# Altium schematic symbol library ON Semi Triacs.SchLib: 233 symbols (part 3 of 5)
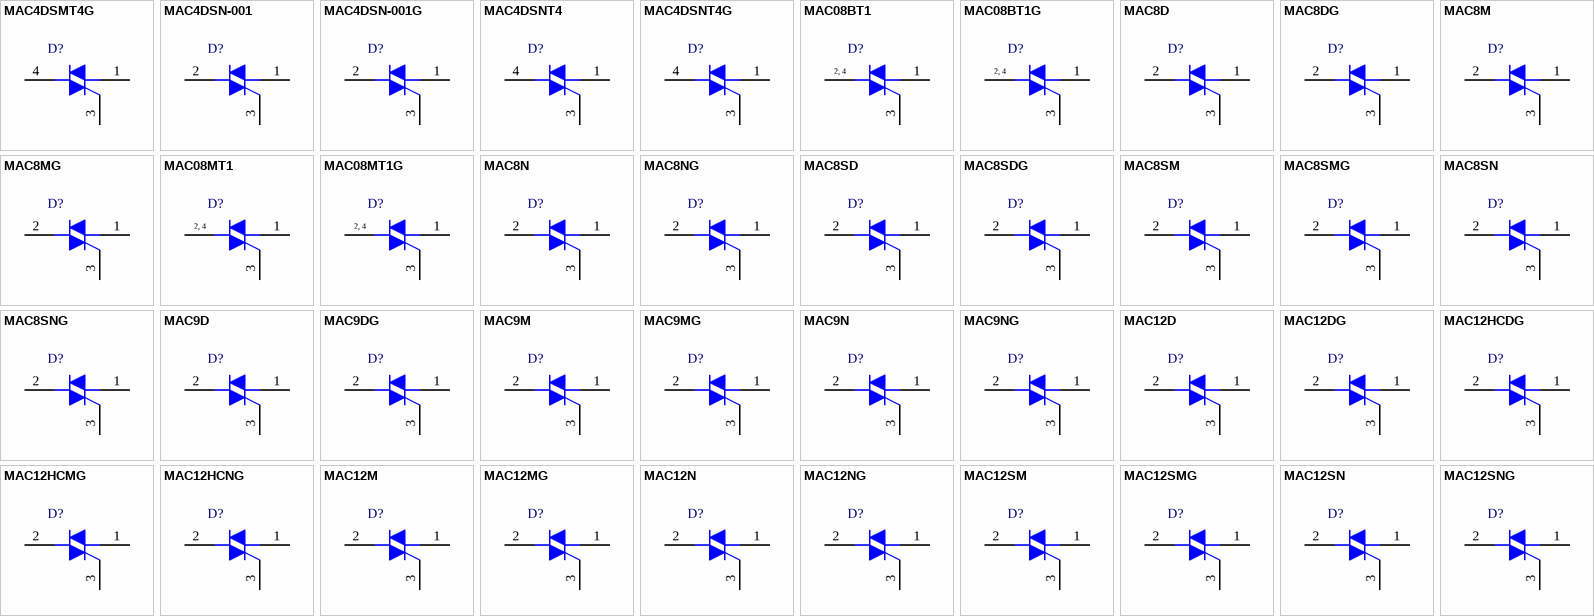
[diagram p7: symbols MAC4DSMT4G to MAC12SNG]

## MAC8SD
designator D?
Sensitive Gate Triacs, Silicon Bidirectional Thyristor, 3-Pin TO-220, Tube; Manufacturer: On Semiconductor; PartNumber: MAC8SD; IGT Max (mA): 5; IT(RMS) Max (A): 8; ITSM Max (A): 70; DatasheetVersion: Rev. 5; PackageVersion: Rev. AA; PackageReference: TO-220-3-221A-09_AA; PackageDescription: 3-Pin Flange Mount, Vertical Straight Lead, Body 9.97 x 4.445 mm, Pitch 2.54 mm; Packing: Tube; Mounting Technology: Through Hole; ComponentLink1Description: Manufacturer URL; ComponentLink1URL: http://www.onsemi.com/; ComponentLink2Description: Datasheet; ComponentLink2URL: http://www.onsemi.com/pub_link/Collateral/MAC8S-D.PDF; ComponentLink3Description: Package Specification; ComponentLink3URL: http://www.onsemi.com/pub_link/Collateral/MAC16C-D.PDF
footprint ONSC-TO-220-3-221A-09_AA (FM, 3-Leads, Body 10.3x4.85mm, Pitch 2.54mm)
pins: 1 MT1, 2 MT2, 3 G

## MAC8SDG
designator D?
Sensitive Gate Triacs, Silicon Bidirectional Thyristor, 3-Pin TO-220, Pb-Free, Tube; Manufacturer: On Semiconductor; PartNumber: MAC8SDG; IGT Max (mA): 5; IT(RMS) Max (A): 8; ITSM Max (A): 70; DatasheetVersion: Rev. 5; PackageVersion: Rev. AA; PackageReference: TO-220-3-221A-09_AA; PackageDescription: 3-Pin Flange Mount, Vertical Straight Lead, Body 9.97 x 4.445 mm, Pitch 2.54 mm; Supplier 1: Digi-Key; Supplier Part Number 1: MAC8SDG-ND; Supplier 2: Mouser; Supplier Part Number 2: 863-MAC8SDG; Packing: Tube; RoHS: Pb-Free; Mounting Technology: Through Hole; ComponentLink1Description: Manufacturer URL; ComponentLink1URL: http://www.onsemi.com/; ComponentLink2Description: Datasheet; ComponentLink2URL: http://www.onsemi.com/pub_link/Collateral/MAC8S-D.PDF; ComponentLink3Description: Package Specification; ComponentLink3URL: http://www.onsemi.com/pub_link/Collateral/MAC16C-D.PDF
footprint ONSC-TO-220-3-221A-09_AA (FM, 3-Leads, Body 10.3x4.85mm, Pitch 2.54mm)
pins: 1 MT1, 2 MT2, 3 G

## MAC8SM
designator D?
Sensitive Gate Triacs, Silicon Bidirectional Thyristor, 3-Pin TO-220, Tube; Manufacturer: On Semiconductor; PartNumber: MAC8SM; IGT Max (mA): 5; IT(RMS) Max (A): 8; ITSM Max (A): 70; DatasheetVersion: Rev. 5; PackageVersion: Rev. AA; PackageReference: TO-220-3-221A-09_AA; PackageDescription: 3-Pin Flange Mount, Vertical Straight Lead, Body 9.97 x 4.445 mm, Pitch 2.54 mm; Supplier 1: Digi-Key; Supplier Part Number 1: MAC8SMOS-ND; Packing: Tube; Mounting Technology: Through Hole; ComponentLink1Description: Manufacturer URL; ComponentLink1URL: http://www.onsemi.com/; ComponentLink2Description: Datasheet; ComponentLink2URL: http://www.onsemi.com/pub_link/Collateral/MAC8S-D.PDF; ComponentLink3Description: Package Specification; ComponentLink3URL: http://www.onsemi.com/pub_link/Collateral/MAC16C-D.PDF
footprint ONSC-TO-220-3-221A-09_AA (FM, 3-Leads, Body 10.3x4.85mm, Pitch 2.54mm)
pins: 1 MT1, 2 MT2, 3 G

## MAC8SMG
designator D?
Sensitive Gate Triacs, Silicon Bidirectional Thyristor, 3-Pin TO-220, Pb-Free, Tube; Manufacturer: On Semiconductor; PartNumber: MAC8SMG; IGT Max (mA): 5; IT(RMS) Max (A): 8; ITSM Max (A): 70; DatasheetVersion: Rev. 5; PackageVersion: Rev. AA; PackageReference: TO-220-3-221A-09_AA; PackageDescription: 3-Pin Flange Mount, Vertical Straight Lead, Body 9.97 x 4.445 mm, Pitch 2.54 mm; Supplier 1: Digi-Key; Supplier Part Number 1: MAC8SMGOS-ND; Supplier 2: Newark; Supplier Part Number 2: 26K3655; Supplier 3: Mouser; Supplier Part Number 3: 863-MAC8SMG; Packing: Tube; RoHS: Pb-Free; Mounting Technology: Through Hole; ComponentLink1Description: Manufacturer URL; ComponentLink1URL: http://www.onsemi.com/; ComponentLink2Description: Datasheet; ComponentLink2URL: http://www.onsemi.com/pub_link/Collateral/MAC8S-D.PDF; ComponentLink3Description: Package Specification; ComponentLink3URL: http://www.onsemi.com/pub_link/Collateral/MAC16C-D.PDF
footprint ONSC-TO-220-3-221A-09_AA (FM, 3-Leads, Body 10.3x4.85mm, Pitch 2.54mm)
pins: 1 MT1, 2 MT2, 3 G

## MAC8SN
designator D?
Sensitive Gate Triacs, Silicon Bidirectional Thyristor, 3-Pin TO-220, Tube; Manufacturer: On Semiconductor; PartNumber: MAC8SN; IGT Max (mA): 5; IT(RMS) Max (A): 8; ITSM Max (A): 70; DatasheetVersion: Rev. 5; PackageVersion: Rev. AA; PackageReference: TO-220-3-221A-09_AA; PackageDescription: 3-Pin Flange Mount, Vertical Straight Lead, Body 9.97 x 4.445 mm, Pitch 2.54 mm; Supplier 1: Digi-Key; Supplier Part Number 1: MAC8SN-ND; Packing: Tube; Mounting Technology: Through Hole; ComponentLink1Description: Manufacturer URL; ComponentLink1URL: http://www.onsemi.com/; ComponentLink2Description: Datasheet; ComponentLink2URL: http://www.onsemi.com/pub_link/Collateral/MAC8S-D.PDF; ComponentLink3Description: Package Specification; ComponentLink3URL: http://www.onsemi.com/pub_link/Collateral/MAC16C-D.PDF
footprint ONSC-TO-220-3-221A-09_AA (FM, 3-Leads, Body 10.3x4.85mm, Pitch 2.54mm)
pins: 1 MT1, 2 MT2, 3 G

## MAC8SNG
designator D?
Sensitive Gate Triacs, Silicon Bidirectional Thyristor, 3-Pin TO-220, Pb-Free, Tube; Manufacturer: On Semiconductor; PartNumber: MAC8SNG; IGT Max (mA): 5; IT(RMS) Max (A): 8; ITSM Max (A): 70; DatasheetVersion: Rev. 5; PackageVersion: Rev. AA; PackageReference: TO-220-3-221A-09_AA; PackageDescription: 3-Pin Flange Mount, Vertical Straight Lead, Body 9.97 x 4.445 mm, Pitch 2.54 mm; Supplier 1: Digi-Key; Supplier Part Number 1: MAC8SNGOS-ND; Supplier 2: Farnell; Supplier Part Number 2: 2317533; Supplier 3: Newark; Supplier Part Number 3: 90W4473; Supplier 4: Newark; Supplier Part Number 4: 71J5237; Supplier 5: Mouser; Supplier Part Number 5: 863-MAC8SNG; Packing: Tube; RoHS: Pb-Free; Mounting Technology: Through Hole; ComponentLink1Description: Manufacturer URL; ComponentLink1URL: http://www.onsemi.com/; ComponentLink2Description: Datasheet; ComponentLink2URL: http://www.onsemi.com/pub_link/Collateral/MAC8S-D.PDF; ComponentLink3Description: Package Specification; ComponentLink3URL: http://www.onsemi.com/pub_link/Collateral/MAC16C-D.PDF
footprint ONSC-TO-220-3-221A-09_AA (FM, 3-Leads, Body 10.3x4.85mm, Pitch 2.54mm)
pins: 1 MT1, 2 MT2, 3 G

## MAC9D
designator D?
Triacs, Silicon Bidirectional Thyristor, 3-Pin TO-220, Tube; Manufacturer: On Semiconductor; PartNumber: MAC9D; IGT Max (mA): 50; IT(RMS) Max (A): 8; ITSM Max (A): 80; DatasheetVersion: Rev. 3; PackageVersion: Rev. AA; PackageReference: TO-220-3-221A-09_AA; PackageDescription: 3-Pin Flange Mount, Vertical Straight Lead, Body 9.97 x 4.445 mm, Pitch 2.54 mm; Supplier 1: Digi-Key; Supplier Part Number 1: MAC9DOS-ND; Packing: Tube; Mounting Technology: Through Hole; ComponentLink1Description: Manufacturer URL; ComponentLink1URL: http://www.onsemi.com/; ComponentLink2Description: Datasheet; ComponentLink2URL: http://www.onsemi.com/pub_link/Collateral/MAC9-D.PDF; ComponentLink3Description: Package Specification; ComponentLink3URL: http://www.onsemi.com/pub_link/Collateral/MAC16C-D.PDF
footprint ONSC-TO-220-3-221A-09_AA (FM, 3-Leads, Body 10.3x4.85mm, Pitch 2.54mm)
pins: 1 MT1, 2 MT2, 3 G

## MAC9DG
designator D?
Triacs, Silicon Bidirectional Thyristor, 3-Pin TO-220, Pb-Free, Tube; Manufacturer: On Semiconductor; PartNumber: MAC9DG; IGT Max (mA): 50; IT(RMS) Max (A): 8; ITSM Max (A): 80; DatasheetVersion: Rev. 3; PackageVersion: Rev. AA; PackageReference: TO-220-3-221A-09_AA; PackageDescription: 3-Pin Flange Mount, Vertical Straight Lead, Body 9.97 x 4.445 mm, Pitch 2.54 mm; Supplier 1: Digi-Key; Supplier Part Number 1: MAC9DGOS-ND; Supplier 2: Farnell; Supplier Part Number 2: 1354335; Supplier 3: Newark; Supplier Part Number 3: 26K3656; Supplier 4: Mouser; Supplier Part Number 4: 863-MAC9DG; Packing: Tube; RoHS: Pb-Free; Mounting Technology: Through Hole; ComponentLink1Description: Manufacturer URL; ComponentLink1URL: http://www.onsemi.com/; ComponentLink2Description: Datasheet; ComponentLink2URL: http://www.onsemi.com/pub_link/Collateral/MAC9-D.PDF; ComponentLink3Description: Package Specification; ComponentLink3URL: http://www.onsemi.com/pub_link/Collateral/MAC16C-D.PDF
footprint ONSC-TO-220-3-221A-09_AA (FM, 3-Leads, Body 10.3x4.85mm, Pitch 2.54mm)
pins: 1 MT1, 2 MT2, 3 G

## MAC9M
designator D?
Triacs, Silicon Bidirectional Thyristor, 3-Pin TO-220, Tube; Manufacturer: On Semiconductor; PartNumber: MAC9M; IGT Max (mA): 50; IT(RMS) Max (A): 8; ITSM Max (A): 80; DatasheetVersion: Rev. 3; PackageVersion: Rev. AA; PackageReference: TO-220-3-221A-09_AA; PackageDescription: 3-Pin Flange Mount, Vertical Straight Lead, Body 9.97 x 4.445 mm, Pitch 2.54 mm; Packing: Tube; Mounting Technology: Through Hole; ComponentLink1Description: Manufacturer URL; ComponentLink1URL: http://www.onsemi.com/; ComponentLink2Description: Datasheet; ComponentLink2URL: http://www.onsemi.com/pub_link/Collateral/MAC9-D.PDF; ComponentLink3Description: Package Specification; ComponentLink3URL: http://www.onsemi.com/pub_link/Collateral/MAC16C-D.PDF
footprint ONSC-TO-220-3-221A-09_AA (FM, 3-Leads, Body 10.3x4.85mm, Pitch 2.54mm)
pins: 1 MT1, 2 MT2, 3 G

## MAC9MG
designator D?
Triacs, Silicon Bidirectional Thyristor, 3-Pin TO-220, Pb-Free, Tube; Manufacturer: On Semiconductor; PartNumber: MAC9MG; IGT Max (mA): 50; IT(RMS) Max (A): 8; ITSM Max (A): 80; DatasheetVersion: Rev. 3; PackageVersion: Rev. AA; PackageReference: TO-220-3-221A-09_AA; PackageDescription: 3-Pin Flange Mount, Vertical Straight Lead, Body 9.97 x 4.445 mm, Pitch 2.54 mm; Supplier 1: Digi-Key; Supplier Part Number 1: MAC9MG-ND; Supplier 2: Newark; Supplier Part Number 2: 26K3657; Supplier 3: Mouser; Supplier Part Number 3: 863-MAC9MG; Packing: Tube; RoHS: Pb-Free; Mounting Technology: Through Hole; ComponentLink1Description: Manufacturer URL; ComponentLink1URL: http://www.onsemi.com/; ComponentLink2Description: Datasheet; ComponentLink2URL: http://www.onsemi.com/pub_link/Collateral/MAC9-D.PDF; ComponentLink3Description: Package Specification; ComponentLink3URL: http://www.onsemi.com/pub_link/Collateral/MAC16C-D.PDF
footprint ONSC-TO-220-3-221A-09_AA (FM, 3-Leads, Body 10.3x4.85mm, Pitch 2.54mm)
pins: 1 MT1, 2 MT2, 3 G

## MAC9N
designator D?
Triacs, Silicon Bidirectional Thyristor, 3-Pin TO-220, Tube; Manufacturer: On Semiconductor; PartNumber: MAC9N; IGT Max (mA): 50; IT(RMS) Max (A): 8; ITSM Max (A): 80; DatasheetVersion: Rev. 3; PackageVersion: Rev. AA; PackageReference: TO-220-3-221A-09_AA; PackageDescription: 3-Pin Flange Mount, Vertical Straight Lead, Body 9.97 x 4.445 mm, Pitch 2.54 mm; Packing: Tube; Mounting Technology: Through Hole; ComponentLink1Description: Manufacturer URL; ComponentLink1URL: http://www.onsemi.com/; ComponentLink2Description: Datasheet; ComponentLink2URL: http://www.onsemi.com/pub_link/Collateral/MAC9-D.PDF; ComponentLink3Description: Package Specification; ComponentLink3URL: http://www.onsemi.com/pub_link/Collateral/MAC16C-D.PDF
footprint ONSC-TO-220-3-221A-09_AA (FM, 3-Leads, Body 10.3x4.85mm, Pitch 2.54mm)
pins: 1 MT1, 2 MT2, 3 G

## MAC9NG
designator D?
Triacs, Silicon Bidirectional Thyristor, 3-Pin TO-220, Pb-Free, Tube; Manufacturer: On Semiconductor; PartNumber: MAC9NG; IGT Max (mA): 50; IT(RMS) Max (A): 8; ITSM Max (A): 80; DatasheetVersion: Rev. 3; PackageVersion: Rev. AA; PackageReference: TO-220-3-221A-09_AA; PackageDescription: 3-Pin Flange Mount, Vertical Straight Lead, Body 9.97 x 4.445 mm, Pitch 2.54 mm; Supplier 1: Digi-Key; Supplier Part Number 1: MAC9NGOS-ND; Supplier 2: Newark; Supplier Part Number 2: 26K3658; Supplier 3: Mouser; Supplier Part Number 3: 863-MAC9NG; Packing: Tube; RoHS: Pb-Free; Mounting Technology: Through Hole; ComponentLink1Description: Manufacturer URL; ComponentLink1URL: http://www.onsemi.com/; ComponentLink2Description: Datasheet; ComponentLink2URL: http://www.onsemi.com/pub_link/Collateral/MAC9-D.PDF; ComponentLink3Description: Package Specification; ComponentLink3URL: http://www.onsemi.com/pub_link/Collateral/MAC16C-D.PDF
footprint ONSC-TO-220-3-221A-09_AA (FM, 3-Leads, Body 10.3x4.85mm, Pitch 2.54mm)
pins: 1 MT1, 2 MT2, 3 G

## MAC12D
designator D?
Triacs, Silicon Bidirectional Thyristor, 3-Pin TO-220, Tube; Manufacturer: On Semiconductor; PartNumber: MAC12D; IGT Max (mA): 35; IT(RMS) Max (A): 12; ITSM Max (A): 100; DatasheetVersion: Rev. 4; PackageVersion: Rev. AA; PackageReference: TO-220-3-221A-09_AA; PackageDescription: 3-Pin Flange Mount, Vertical Straight Lead, Body 9.97 x 4.445 mm, Pitch 2.54 mm; Packing: Tube; Mounting Technology: Through Hole; ComponentLink1Description: Manufacturer URL; ComponentLink1URL: http://www.onsemi.com/; ComponentLink2Description: Datasheet; ComponentLink2URL: http://www.onsemi.com/pub_link/Collateral/MAC12-D.PDF; ComponentLink3Description: Package Specification; ComponentLink3URL: http://www.onsemi.com/pub_link/Collateral/MAC16C-D.PDF
footprint ONSC-TO-220-3-221A-09_AA (FM, 3-Leads, Body 10.3x4.85mm, Pitch 2.54mm)
pins: 1 MT1, 2 MT2, 3 G

## MAC12DG
designator D?
Triacs, Silicon Bidirectional Thyristor, 3-Pin TO-220, Pb-Free, Tube; Manufacturer: On Semiconductor; PartNumber: MAC12DG; IGT Max (mA): 35; IT(RMS) Max (A): 12; ITSM Max (A): 100; DatasheetVersion: Rev. 4; PackageVersion: Rev. AA; PackageReference: TO-220-3-221A-09_AA; PackageDescription: 3-Pin Flange Mount, Vertical Straight Lead, Body 9.97 x 4.445 mm, Pitch 2.54 mm; Supplier 1: Digi-Key; Supplier Part Number 1: MAC12DGOS-ND; Supplier 2: Farnell; Supplier Part Number 2: 1705863; Supplier 3: Newark; Supplier Part Number 3: 41K9906; Supplier 4: Mouser; Supplier Part Number 4: 863-MAC12DG; Packing: Tube; RoHS: Pb-Free; Mounting Technology: Through Hole; ComponentLink1Description: Manufacturer URL; ComponentLink1URL: http://www.onsemi.com/; ComponentLink2Description: Datasheet; ComponentLink2URL: http://www.onsemi.com/pub_link/Collateral/MAC12-D.PDF; ComponentLink3Description: Package Specification; ComponentLink3URL: http://www.onsemi.com/pub_link/Collateral/MAC16C-D.PDF
footprint ONSC-TO-220-3-221A-09_AA (FM, 3-Leads, Body 10.3x4.85mm, Pitch 2.54mm)
pins: 1 MT1, 2 MT2, 3 G

## MAC12HCDG
designator D?
Triacs, Silicon Bidirectional Thyristor, 3-Pin TO-220, Pb-Free, Tube; Manufacturer: On Semiconductor; PartNumber: MAC12HCDG; IGT Max (mA): 50; IT(RMS) Max (A): 12; ITSM Max (A): 100; DatasheetVersion: Rev. 4; PackageVersion: Rev. AG, 09/2011; PackageReference: TO-220-3-221A-09; PackageDescription: 3-Pin Flange Mount, Vertical Straight Lead, Body 9.97 x 4.445 mm, Pitch 2.54 mm; Supplier 1: Digi-Key; Supplier Part Number 1: MAC12HCDG-ND; Supplier 2: Newark; Supplier Part Number 2: 45J0760; Supplier 3: Mouser; Supplier Part Number 3: 863-MAC12HCDG; Packing: Tube; RoHS: Pb-Free; Mounting Technology: Through Hole; ComponentLink1Description: Manufacturer URL; ComponentLink1URL: http://www.onsemi.com/; ComponentLink2Description: Datasheet; ComponentLink2URL: http://www.onsemi.com/pub_link/Collateral/MAC12HC-D.PDF; ComponentLink3Description: Package Specification; ComponentLink3URL: http://www.onsemi.com/pub_link/Collateral/221A-09.PDF
footprint ONSC-TO-220-3-221A-09 (FM, 3-Leads, Body 10.3x4.85mm, Pitch 2.54mm)
pins: 1 MT1, 2 MT2, 3 G

## MAC12HCMG
designator D?
Triacs, Silicon Bidirectional Thyristor, 3-Pin TO-220, Pb-Free, Tube; Manufacturer: On Semiconductor; PartNumber: MAC12HCMG; IGT Max (mA): 50; IT(RMS) Max (A): 12; ITSM Max (A): 100; DatasheetVersion: Rev. 4; PackageVersion: Rev. AG, 09/2011; PackageReference: TO-220-3-221A-09; PackageDescription: 3-Pin Flange Mount, Vertical Straight Lead, Body 9.97 x 4.445 mm, Pitch 2.54 mm; Supplier 1: Digi-Key; Supplier Part Number 1: MAC12HCMG-ND; Supplier 2: Newark; Supplier Part Number 2: 26K3648; Supplier 3: Mouser; Supplier Part Number 3: 863-MAC12HCMG; Packing: Tube; RoHS: Pb-Free; Mounting Technology: Through Hole; ComponentLink1Description: Manufacturer URL; ComponentLink1URL: http://www.onsemi.com/; ComponentLink2Description: Datasheet; ComponentLink2URL: http://www.onsemi.com/pub_link/Collateral/MAC12HC-D.PDF; ComponentLink3Description: Package Specification; ComponentLink3URL: http://www.onsemi.com/pub_link/Collateral/221A-09.PDF
footprint ONSC-TO-220-3-221A-09 (FM, 3-Leads, Body 10.3x4.85mm, Pitch 2.54mm)
pins: 1 MT1, 2 MT2, 3 G

## MAC12HCNG
designator D?
Triacs, Silicon Bidirectional Thyristor, 3-Pin TO-220, Pb-Free, Tube; Manufacturer: On Semiconductor; PartNumber: MAC12HCNG; IGT Max (mA): 50; IT(RMS) Max (A): 12; ITSM Max (A): 100; DatasheetVersion: Rev. 4; PackageVersion: Rev. AG, 09/2011; PackageReference: TO-220-3-221A-09; PackageDescription: 3-Pin Flange Mount, Vertical Straight Lead, Body 9.97 x 4.445 mm, Pitch 2.54 mm; Supplier 1: Digi-Key; Supplier Part Number 1: MAC12HCNG-ND; Supplier 2: Newark; Supplier Part Number 2: 41K9907; Supplier 3: Mouser; Supplier Part Number 3: 863-MAC12HCNG; Packing: Tube; RoHS: Pb-Free; Mounting Technology: Through Hole; ComponentLink1Description: Manufacturer URL; ComponentLink1URL: http://www.onsemi.com/; ComponentLink2Description: Datasheet; ComponentLink2URL: http://www.onsemi.com/pub_link/Collateral/MAC12HC-D.PDF; ComponentLink3Description: Package Specification; ComponentLink3URL: http://www.onsemi.com/pub_link/Collateral/221A-09.PDF
footprint ONSC-TO-220-3-221A-09 (FM, 3-Leads, Body 10.3x4.85mm, Pitch 2.54mm)
pins: 1 MT1, 2 MT2, 3 G

## MAC12M
designator D?
Triacs, Silicon Bidirectional Thyristor, 3-Pin TO-220, Tube; Manufacturer: On Semiconductor; PartNumber: MAC12M; IGT Max (mA): 35; IT(RMS) Max (A): 12; ITSM Max (A): 100; DatasheetVersion: Rev. 4; PackageVersion: Rev. AA; PackageReference: TO-220-3-221A-09_AA; PackageDescription: 3-Pin Flange Mount, Vertical Straight Lead, Body 9.97 x 4.445 mm, Pitch 2.54 mm; Packing: Tube; Mounting Technology: Through Hole; ComponentLink1Description: Manufacturer URL; ComponentLink1URL: http://www.onsemi.com/; ComponentLink2Description: Datasheet; ComponentLink2URL: http://www.onsemi.com/pub_link/Collateral/MAC12-D.PDF; ComponentLink3Description: Package Specification; ComponentLink3URL: http://www.onsemi.com/pub_link/Collateral/MAC16C-D.PDF
footprint ONSC-TO-220-3-221A-09_AA (FM, 3-Leads, Body 10.3x4.85mm, Pitch 2.54mm)
pins: 1 MT1, 2 MT2, 3 G

## MAC12MG
designator D?
Triacs, Silicon Bidirectional Thyristor, 3-Pin TO-220, Pb-Free, Tube; Manufacturer: On Semiconductor; PartNumber: MAC12MG; IGT Max (mA): 35; IT(RMS) Max (A): 12; ITSM Max (A): 100; DatasheetVersion: Rev. 4; PackageVersion: Rev. AA; PackageReference: TO-220-3-221A-09_AA; PackageDescription: 3-Pin Flange Mount, Vertical Straight Lead, Body 9.97 x 4.445 mm, Pitch 2.54 mm; Supplier 1: Digi-Key; Supplier Part Number 1: MAC12MGOS-ND; Supplier 2: Farnell; Supplier Part Number 2: 1126418; Supplier 3: Newark; Supplier Part Number 3: 45J0761; Supplier 4: Mouser; Supplier Part Number 4: 863-MAC12MG; Packing: Tube; RoHS: Pb-Free; Mounting Technology: Through Hole; ComponentLink1Description: Manufacturer URL; ComponentLink1URL: http://www.onsemi.com/; ComponentLink2Description: Datasheet; ComponentLink2URL: http://www.onsemi.com/pub_link/Collateral/MAC12-D.PDF; ComponentLink3Description: Package Specification; ComponentLink3URL: http://www.onsemi.com/pub_link/Collateral/MAC16C-D.PDF
footprint ONSC-TO-220-3-221A-09_AA (FM, 3-Leads, Body 10.3x4.85mm, Pitch 2.54mm)
pins: 1 MT1, 2 MT2, 3 G

## MAC12N
designator D?
Triacs, Silicon Bidirectional Thyristor, 3-Pin TO-220, Tube; Manufacturer: On Semiconductor; PartNumber: MAC12N; IGT Max (mA): 35; IT(RMS) Max (A): 12; ITSM Max (A): 100; DatasheetVersion: Rev. 4; PackageVersion: Rev. AA; PackageReference: TO-220-3-221A-09_AA; PackageDescription: 3-Pin Flange Mount, Vertical Straight Lead, Body 9.97 x 4.445 mm, Pitch 2.54 mm; Packing: Tube; Mounting Technology: Through Hole; ComponentLink1Description: Manufacturer URL; ComponentLink1URL: http://www.onsemi.com/; ComponentLink2Description: Datasheet; ComponentLink2URL: http://www.onsemi.com/pub_link/Collateral/MAC12-D.PDF; ComponentLink3Description: Package Specification; ComponentLink3URL: http://www.onsemi.com/pub_link/Collateral/MAC16C-D.PDF
footprint ONSC-TO-220-3-221A-09_AA (FM, 3-Leads, Body 10.3x4.85mm, Pitch 2.54mm)
pins: 1 MT1, 2 MT2, 3 G

## MAC12NG
designator D?
Triacs, Silicon Bidirectional Thyristor, 3-Pin TO-220, Pb-Free, Tube; Manufacturer: On Semiconductor; PartNumber: MAC12NG; IGT Max (mA): 35; IT(RMS) Max (A): 12; ITSM Max (A): 100; DatasheetVersion: Rev. 4; PackageVersion: Rev. AA; PackageReference: TO-220-3-221A-09_AA; PackageDescription: 3-Pin Flange Mount, Vertical Straight Lead, Body 9.97 x 4.445 mm, Pitch 2.54 mm; Supplier 1: Digi-Key; Supplier Part Number 1: MAC12NGOS-ND; Supplier 2: Newark; Supplier Part Number 2: 26K3649; Supplier 3: Mouser; Supplier Part Number 3: 863-MAC12NG; Packing: Tube; RoHS: Pb-Free; Mounting Technology: Through Hole; ComponentLink1Description: Manufacturer URL; ComponentLink1URL: http://www.onsemi.com/; ComponentLink2Description: Datasheet; ComponentLink2URL: http://www.onsemi.com/pub_link/Collateral/MAC12-D.PDF; ComponentLink3Description: Package Specification; ComponentLink3URL: http://www.onsemi.com/pub_link/Collateral/MAC16C-D.PDF
footprint ONSC-TO-220-3-221A-09_AA (FM, 3-Leads, Body 10.3x4.85mm, Pitch 2.54mm)
pins: 1 MT1, 2 MT2, 3 G

## MAC12SM
designator D?
Sensitive Gate Triacs, Silicon Bidirectional Thyristor, 3-Pin TO-220, Tube; Manufacturer: On Semiconductor; PartNumber: MAC12SM; IGT Max (mA): 5; IT(RMS) Max (A): 12; ITSM Max (A): 90; DatasheetVersion: Rev. 3; PackageVersion: Rev. AA; PackageReference: TO-220-3-221A-09_AA; PackageDescription: 3-Pin Flange Mount, Vertical Straight Lead, Body 9.97 x 4.445 mm, Pitch 2.54 mm; Supplier 1: Digi-Key; Supplier Part Number 1: MAC12SM-ND; Packing: Tube; Mounting Technology: Through Hole; ComponentLink1Description: Manufacturer URL; ComponentLink1URL: http://www.onsemi.com/; ComponentLink2Description: Datasheet; ComponentLink2URL: http://www.onsemi.com/pub_link/Collateral/MAC12SM-D.PDF; ComponentLink3Description: Package Specification; ComponentLink3URL: http://www.onsemi.com/pub_link/Collateral/MAC16C-D.PDF
footprint ONSC-TO-220-3-221A-09_AA (FM, 3-Leads, Body 10.3x4.85mm, Pitch 2.54mm)
pins: 1 MT1, 2 MT2, 3 G

## MAC12SMG
designator D?
Sensitive Gate Triacs, Silicon Bidirectional Thyristor, 3-Pin TO-220, Pb-Free, Tube; Manufacturer: On Semiconductor; PartNumber: MAC12SMG; IGT Max (mA): 5; IT(RMS) Max (A): 12; ITSM Max (A): 90; DatasheetVersion: Rev. 3; PackageVersion: Rev. AA; PackageReference: TO-220-3-221A-09_AA; PackageDescription: 3-Pin Flange Mount, Vertical Straight Lead, Body 9.97 x 4.445 mm, Pitch 2.54 mm; Supplier 1: Digi-Key; Supplier Part Number 1: MAC12SMG-ND; Supplier 2: Newark; Supplier Part Number 2: 41K9908; Supplier 3: Mouser; Supplier Part Number 3: 863-MAC12SMG; Packing: Tube; RoHS: Pb-Free; Mounting Technology: Through Hole; ComponentLink1Description: Manufacturer URL; ComponentLink1URL: http://www.onsemi.com/; ComponentLink2Description: Datasheet; ComponentLink2URL: http://www.onsemi.com/pub_link/Collateral/MAC12SM-D.PDF; ComponentLink3Description: Package Specification; ComponentLink3URL: http://www.onsemi.com/pub_link/Collateral/MAC16C-D.PDF
footprint ONSC-TO-220-3-221A-09_AA (FM, 3-Leads, Body 10.3x4.85mm, Pitch 2.54mm)
pins: 1 MT1, 2 MT2, 3 G

## MAC12SN
designator D?
Sensitive Gate Triacs, Silicon Bidirectional Thyristor, 3-Pin TO-220, Tube; Manufacturer: On Semiconductor; PartNumber: MAC12SN; IGT Max (mA): 5; IT(RMS) Max (A): 12; ITSM Max (A): 90; DatasheetVersion: Rev. 3; PackageVersion: Rev. AA; PackageReference: TO-220-3-221A-09_AA; PackageDescription: 3-Pin Flange Mount, Vertical Straight Lead, Body 9.97 x 4.445 mm, Pitch 2.54 mm; Supplier 1: Digi-Key; Supplier Part Number 1: MAC12SNOS-ND; Packing: Tube; Mounting Technology: Through Hole; ComponentLink1Description: Manufacturer URL; ComponentLink1URL: http://www.onsemi.com/; ComponentLink2Description: Datasheet; ComponentLink2URL: http://www.onsemi.com/pub_link/Collateral/MAC12SM-D.PDF; ComponentLink3Description: Package Specification; ComponentLink3URL: http://www.onsemi.com/pub_link/Collateral/MAC16C-D.PDF
footprint ONSC-TO-220-3-221A-09_AA (FM, 3-Leads, Body 10.3x4.85mm, Pitch 2.54mm)
pins: 1 MT1, 2 MT2, 3 G

## MAC12SNG
designator D?
Sensitive Gate Triacs, Silicon Bidirectional Thyristor, 3-Pin TO-220, Pb-Free, Tube; Manufacturer: On Semiconductor; PartNumber: MAC12SNG; IGT Max (mA): 5; IT(RMS) Max (A): 12; ITSM Max (A): 90; DatasheetVersion: Rev. 3; PackageVersion: Rev. AA; PackageReference: TO-220-3-221A-09_AA; PackageDescription: 3-Pin Flange Mount, Vertical Straight Lead, Body 9.97 x 4.445 mm, Pitch 2.54 mm; Supplier 1: Digi-Key; Supplier Part Number 1: MAC12SNGOS-ND; Supplier 2: Farnell; Supplier Part Number 2: 1705993; Supplier 3: Newark; Supplier Part Number 3: 71J5232; Supplier 4: Mouser; Supplier Part Number 4: 863-MAC12SNG; Packing: Tube; RoHS: Pb-Free; Mounting Technology: Through Hole; ComponentLink1Description: Manufacturer URL; ComponentLink1URL: http://www.onsemi.com/; ComponentLink2Description: Datasheet; ComponentLink2URL: http://www.onsemi.com/pub_link/Collateral/MAC12SM-D.PDF; ComponentLink3Description: Package Specification; ComponentLink3URL: http://www.onsemi.com/pub_link/Collateral/MAC16C-D.PDF
footprint ONSC-TO-220-3-221A-09_AA (FM, 3-Leads, Body 10.3x4.85mm, Pitch 2.54mm)
pins: 1 MT1, 2 MT2, 3 G

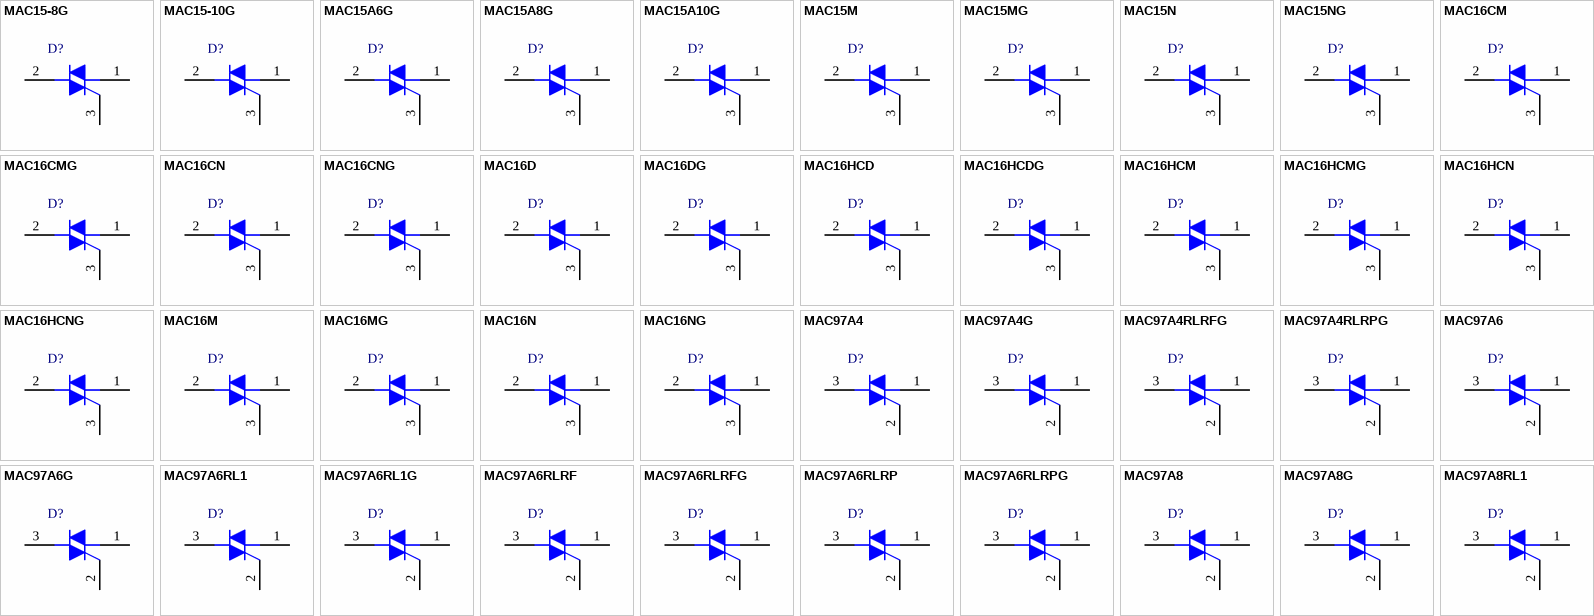
[diagram p3: symbols MAC15-8G to MAC97A8RL1]

## MAC15-8G
designator D?
Triacs, Silicon Bidirectional Thyristor, 3-Pin TO-220, Pb-Free, Bulk Box; Manufacturer: On Semiconductor; PartNumber: MAC15-8G; IT(RMS) Max (A): 15; ITSM Max (A): 150; DatasheetVersion: Rev. 5; PackageVersion: Rev. AG, 09/2011; PackageReference: TO-220-3-221A-09; PackageDescription: 3-Pin Flange Mount, Vertical Straight Lead, Body 9.97 x 4.445 mm, Pitch 2.54 mm; Supplier 1: Digi-Key; Supplier Part Number 1: MAC15-8G-ND; Supplier 2: Newark; Supplier Part Number 2: 41K9910; Supplier 3: Mouser; Supplier Part Number 3: 863-MAC15-8G; Packing: Bulk Box; RoHS: Pb-Free; Mounting Technology: Through Hole; ComponentLink1Description: Manufacturer URL; ComponentLink1URL: http://www.onsemi.com/; ComponentLink2Description: Datasheet; ComponentLink2URL: http://www.onsemi.com/pub_link/Collateral/MAC15A4-D.PDF; ComponentLink3Description: Package Specification; ComponentLink3URL: http://www.onsemi.com/pub_link/Collateral/221A-09.PDF
footprint ONSC-TO-220-3-221A-09 (FM, 3-Leads, Body 10.3x4.85mm, Pitch 2.54mm)
pins: 1 MT1, 2 MT2, 3 G

## MAC15-10G
designator D?
Triacs, Silicon Bidirectional Thyristor, 3-Pin TO-220, Pb-Free, Bulk Box; Manufacturer: On Semiconductor; PartNumber: MAC15-10G; IT(RMS) Max (A): 15; ITSM Max (A): 150; DatasheetVersion: Rev. 5; PackageVersion: Rev. AG, 09/2011; PackageReference: TO-220-3-221A-09; PackageDescription: 3-Pin Flange Mount, Vertical Straight Lead, Body 9.97 x 4.445 mm, Pitch 2.54 mm; Supplier 1: Digi-Key; Supplier Part Number 1: MAC15-10G-ND; Supplier 2: Newark; Supplier Part Number 2: 41K9909; Supplier 3: Mouser; Supplier Part Number 3: 863-MAC15-10G; Packing: Bulk Box; RoHS: Pb-Free; Mounting Technology: Through Hole; ComponentLink1Description: Manufacturer URL; ComponentLink1URL: http://www.onsemi.com/; ComponentLink2Description: Datasheet; ComponentLink2URL: http://www.onsemi.com/pub_link/Collateral/MAC15A4-D.PDF; ComponentLink3Description: Package Specification; ComponentLink3URL: http://www.onsemi.com/pub_link/Collateral/221A-09.PDF
footprint ONSC-TO-220-3-221A-09 (FM, 3-Leads, Body 10.3x4.85mm, Pitch 2.54mm)
pins: 1 MT1, 2 MT2, 3 G

## MAC15A6G
designator D?
Triacs, Silicon Bidirectional Thyristor, 3-Pin TO-220, Pb-Free, Bulk Box; Manufacturer: On Semiconductor; PartNumber: MAC15A6G; IT(RMS) Max (A): 15; ITSM Max (A): 150; DatasheetVersion: Rev. 5; PackageVersion: Rev. AG, 09/2011; PackageReference: TO-220-3-221A-09; PackageDescription: 3-Pin Flange Mount, Vertical Straight Lead, Body 9.97 x 4.445 mm, Pitch 2.54 mm; Supplier 1: Digi-Key; Supplier Part Number 1: MAC15A6GOS-ND; Supplier 2: Farnell; Supplier Part Number 2: 1126221; Supplier 3: Newark; Supplier Part Number 3: 41K9911; Supplier 4: Mouser; Supplier Part Number 4: 863-MAC15A6G; Packing: Bulk Box; RoHS: Pb-Free; Mounting Technology: Through Hole; ComponentLink1Description: Manufacturer URL; ComponentLink1URL: http://www.onsemi.com/; ComponentLink2Description: Datasheet; ComponentLink2URL: http://www.onsemi.com/pub_link/Collateral/MAC15A4-D.PDF; ComponentLink3Description: Package Specification; ComponentLink3URL: http://www.onsemi.com/pub_link/Collateral/221A-09.PDF
footprint ONSC-TO-220-3-221A-09 (FM, 3-Leads, Body 10.3x4.85mm, Pitch 2.54mm)
pins: 1 MT1, 2 MT2, 3 G

## MAC15A8G
designator D?
Triacs, Silicon Bidirectional Thyristor, 3-Pin TO-220, Pb-Free, Bulk Box; Manufacturer: On Semiconductor; PartNumber: MAC15A8G; IT(RMS) Max (A): 15; ITSM Max (A): 150; DatasheetVersion: Rev. 5; PackageVersion: Rev. AG, 09/2011; PackageReference: TO-220-3-221A-09; PackageDescription: 3-Pin Flange Mount, Vertical Straight Lead, Body 9.97 x 4.445 mm, Pitch 2.54 mm; Supplier 1: Digi-Key; Supplier Part Number 1: MAC15A8GOS-ND; Supplier 2: Farnell; Supplier Part Number 2: 9557300; Supplier 3: Newark; Supplier Part Number 3: 41K9912; Supplier 4: Mouser; Supplier Part Number 4: 863-MAC15A8G; Packing: Bulk Box; RoHS: Pb-Free; Mounting Technology: Through Hole; ComponentLink1Description: Manufacturer URL; ComponentLink1URL: http://www.onsemi.com/; ComponentLink2Description: Datasheet; ComponentLink2URL: http://www.onsemi.com/pub_link/Collateral/MAC15A4-D.PDF; ComponentLink3Description: Package Specification; ComponentLink3URL: http://www.onsemi.com/pub_link/Collateral/221A-09.PDF
footprint ONSC-TO-220-3-221A-09 (FM, 3-Leads, Body 10.3x4.85mm, Pitch 2.54mm)
pins: 1 MT1, 2 MT2, 3 G

## MAC15A10G
designator D?
Triacs, Silicon Bidirectional Thyristor, 3-Pin TO-220, Pb-Free, Bulk Box; Manufacturer: On Semiconductor; PartNumber: MAC15A10G; IT(RMS) Max (A): 15; ITSM Max (A): 150; DatasheetVersion: Rev. 5; PackageVersion: Rev. AG, 09/2011; PackageReference: TO-220-3-221A-09; PackageDescription: 3-Pin Flange Mount, Vertical Straight Lead, Body 9.97 x 4.445 mm, Pitch 2.54 mm; Supplier 1: Digi-Key; Supplier Part Number 1: MAC15A10GOS-ND; Supplier 2: Farnell; Supplier Part Number 2: 1130607; Supplier 3: Newark; Supplier Part Number 3: 71J5233; Supplier 4: Mouser; Supplier Part Number 4: 863-MAC15A10G; Packing: Bulk Box; RoHS: Pb-Free; Mounting Technology: Through Hole; ComponentLink1Description: Manufacturer URL; ComponentLink1URL: http://www.onsemi.com/; ComponentLink2Description: Datasheet; ComponentLink2URL: http://www.onsemi.com/pub_link/Collateral/MAC15A4-D.PDF; ComponentLink3Description: Package Specification; ComponentLink3URL: http://www.onsemi.com/pub_link/Collateral/221A-09.PDF
footprint ONSC-TO-220-3-221A-09 (FM, 3-Leads, Body 10.3x4.85mm, Pitch 2.54mm)
pins: 1 MT1, 2 MT2, 3 G

## MAC15M
designator D?
Triacs, Silicon Bidirectional Thyristor, 3-Pin TO-220, Tube; Manufacturer: On Semiconductor; PartNumber: MAC15M; IGT Max (mA): 35; IT(RMS) Max (A): 15; ITSM Max (A): 150; DatasheetVersion: Rev. 2; PackageVersion: Rev. AA; PackageReference: TO-220-3-221A-09_AA; PackageDescription: 3-Pin Flange Mount, Vertical Straight Lead, Body 9.97 x 4.445 mm, Pitch 2.54 mm; Packing: Tube; Mounting Technology: Through Hole; ComponentLink1Description: Manufacturer URL; ComponentLink1URL: http://www.onsemi.com/; ComponentLink2Description: Datasheet; ComponentLink2URL: http://www.onsemi.com/pub_link/Collateral/MAC15M-D.PDF; ComponentLink3Description: Package Specification; ComponentLink3URL: http://www.onsemi.com/pub_link/Collateral/MAC16C-D.PDF
footprint ONSC-TO-220-3-221A-09_AA (FM, 3-Leads, Body 10.3x4.85mm, Pitch 2.54mm)
pins: 1 MT1, 2 MT2, 3 G

## MAC15MG
designator D?
Triacs, Silicon Bidirectional Thyristor, 3-Pin TO-220, Pb-Free, Tube; Manufacturer: On Semiconductor; PartNumber: MAC15MG; IGT Max (mA): 35; IT(RMS) Max (A): 15; ITSM Max (A): 150; DatasheetVersion: Rev. 2; PackageVersion: Rev. AA; PackageReference: TO-220-3-221A-09_AA; PackageDescription: 3-Pin Flange Mount, Vertical Straight Lead, Body 9.97 x 4.445 mm, Pitch 2.54 mm; Supplier 1: Digi-Key; Supplier Part Number 1: MAC15MGOS-ND; Supplier 2: Farnell; Supplier Part Number 2: 1345338; Supplier 3: Newark; Supplier Part Number 3: 41K9913; Supplier 4: Mouser; Supplier Part Number 4: 863-MAC15MG; Packing: Tube; RoHS: Pb-Free; Mounting Technology: Through Hole; ComponentLink1Description: Manufacturer URL; ComponentLink1URL: http://www.onsemi.com/; ComponentLink2Description: Datasheet; ComponentLink2URL: http://www.onsemi.com/pub_link/Collateral/MAC15M-D.PDF; ComponentLink3Description: Package Specification; ComponentLink3URL: http://www.onsemi.com/pub_link/Collateral/MAC16C-D.PDF
footprint ONSC-TO-220-3-221A-09_AA (FM, 3-Leads, Body 10.3x4.85mm, Pitch 2.54mm)
pins: 1 MT1, 2 MT2, 3 G

## MAC15N
designator D?
Triacs, Silicon Bidirectional Thyristor, 3-Pin TO-220, Tube; Manufacturer: On Semiconductor; PartNumber: MAC15N; IGT Max (mA): 35; IT(RMS) Max (A): 15; ITSM Max (A): 150; DatasheetVersion: Rev. 2; PackageVersion: Rev. AA; PackageReference: TO-220-3-221A-09_AA; PackageDescription: 3-Pin Flange Mount, Vertical Straight Lead, Body 9.97 x 4.445 mm, Pitch 2.54 mm; Supplier 1: Digi-Key; Supplier Part Number 1: MAC15N-ND; Packing: Tube; Mounting Technology: Through Hole; ComponentLink1Description: Manufacturer URL; ComponentLink1URL: http://www.onsemi.com/; ComponentLink2Description: Datasheet; ComponentLink2URL: http://www.onsemi.com/pub_link/Collateral/MAC15M-D.PDF; ComponentLink3Description: Package Specification; ComponentLink3URL: http://www.onsemi.com/pub_link/Collateral/MAC16C-D.PDF
footprint ONSC-TO-220-3-221A-09_AA (FM, 3-Leads, Body 10.3x4.85mm, Pitch 2.54mm)
pins: 1 MT1, 2 MT2, 3 G

## MAC15NG
designator D?
Triacs, Silicon Bidirectional Thyristor, 3-Pin TO-220, Pb-Free, Tube; Manufacturer: On Semiconductor; PartNumber: MAC15NG; IGT Max (mA): 35; IT(RMS) Max (A): 15; ITSM Max (A): 150; DatasheetVersion: Rev. 2; PackageVersion: Rev. AA; PackageReference: TO-220-3-221A-09_AA; PackageDescription: 3-Pin Flange Mount, Vertical Straight Lead, Body 9.97 x 4.445 mm, Pitch 2.54 mm; Supplier 1: Digi-Key; Supplier Part Number 1: MAC15NG-ND; Supplier 2: Newark; Supplier Part Number 2: 41K9914; Supplier 3: Mouser; Supplier Part Number 3: 863-MAC15NG; Packing: Tube; RoHS: Pb-Free; Mounting Technology: Through Hole; ComponentLink1Description: Manufacturer URL; ComponentLink1URL: http://www.onsemi.com/; ComponentLink2Description: Datasheet; ComponentLink2URL: http://www.onsemi.com/pub_link/Collateral/MAC15M-D.PDF; ComponentLink3Description: Package Specification; ComponentLink3URL: http://www.onsemi.com/pub_link/Collateral/MAC16C-D.PDF
footprint ONSC-TO-220-3-221A-09_AA (FM, 3-Leads, Body 10.3x4.85mm, Pitch 2.54mm)
pins: 1 MT1, 2 MT2, 3 G

## MAC16CM
designator D?
Triacs, Silicon Bidirectional Thyristor, 3-Pin TO-220, Tube; Manufacturer: On Semiconductor; PartNumber: MAC16CM; IGT Max (mA): 35; IT(RMS) Max (A): 16; ITSM Max (A): 150; DatasheetVersion: Rev. 3; PackageVersion: Rev. AA; PackageReference: TO-220-3-221A-09_AA; PackageDescription: 3-Pin Flange Mount, Vertical Straight Lead, Body 9.97 x 4.445 mm, Pitch 2.54 mm; Supplier 1: Digi-Key; Supplier Part Number 1: MAC16CM-ND; Packing: Tube; Mounting Technology: Through Hole; ComponentLink1Description: Manufacturer URL; ComponentLink1URL: http://www.onsemi.com/; ComponentLink2Description: Datasheet; ComponentLink2URL: http://www.onsemi.com/pub_link/Collateral/MAC16C-D.PDF; ComponentLink3Description: Package Specification; ComponentLink3URL: http://www.onsemi.com/pub_link/Collateral/MAC16C-D.PDF
footprint ONSC-TO-220-3-221A-09_AA (FM, 3-Leads, Body 10.3x4.85mm, Pitch 2.54mm)
pins: 1 MT1, 2 MT2, 3 G

## MAC16CMG
designator D?
Triacs, Silicon Bidirectional Thyristor, 3-Pin TO-220, Pb-Free, Tube; Manufacturer: On Semiconductor; PartNumber: MAC16CMG; IGT Max (mA): 35; IT(RMS) Max (A): 16; ITSM Max (A): 150; DatasheetVersion: Rev. 3; PackageVersion: Rev. AA; PackageReference: TO-220-3-221A-09_AA; PackageDescription: 3-Pin Flange Mount, Vertical Straight Lead, Body 9.97 x 4.445 mm, Pitch 2.54 mm; Supplier 1: Digi-Key; Supplier Part Number 1: MAC16CMG-ND; Supplier 2: Mouser; Supplier Part Number 2: 863-MAC16CMG; Packing: Tube; RoHS: Pb-Free; Mounting Technology: Through Hole; ComponentLink1Description: Manufacturer URL; ComponentLink1URL: http://www.onsemi.com/; ComponentLink2Description: Datasheet; ComponentLink2URL: http://www.onsemi.com/pub_link/Collateral/MAC16C-D.PDF; ComponentLink3Description: Package Specification; ComponentLink3URL: http://www.onsemi.com/pub_link/Collateral/MAC16C-D.PDF
footprint ONSC-TO-220-3-221A-09_AA (FM, 3-Leads, Body 10.3x4.85mm, Pitch 2.54mm)
pins: 1 MT1, 2 MT2, 3 G

## MAC16CN
designator D?
Triacs, Silicon Bidirectional Thyristor, 3-Pin TO-220, Tube; Manufacturer: On Semiconductor; PartNumber: MAC16CN; IGT Max (mA): 35; IT(RMS) Max (A): 16; ITSM Max (A): 150; DatasheetVersion: Rev. 3; PackageVersion: Rev. AA; PackageReference: TO-220-3-221A-09_AA; PackageDescription: 3-Pin Flange Mount, Vertical Straight Lead, Body 9.97 x 4.445 mm, Pitch 2.54 mm; Supplier 1: Digi-Key; Supplier Part Number 1: MAC16CNOS-ND; Packing: Tube; Mounting Technology: Through Hole; ComponentLink1Description: Manufacturer URL; ComponentLink1URL: http://www.onsemi.com/; ComponentLink2Description: Datasheet; ComponentLink2URL: http://www.onsemi.com/pub_link/Collateral/MAC16C-D.PDF; ComponentLink3Description: Package Specification; ComponentLink3URL: http://www.onsemi.com/pub_link/Collateral/MAC16C-D.PDF
footprint ONSC-TO-220-3-221A-09_AA (FM, 3-Leads, Body 10.3x4.85mm, Pitch 2.54mm)
pins: 1 MT1, 2 MT2, 3 G

## MAC16CNG
designator D?
Triacs, Silicon Bidirectional Thyristor, 3-Pin TO-220, Pb-Free, Tube; Manufacturer: On Semiconductor; PartNumber: MAC16CNG; IGT Max (mA): 35; IT(RMS) Max (A): 16; ITSM Max (A): 150; DatasheetVersion: Rev. 3; PackageVersion: Rev. AA; PackageReference: TO-220-3-221A-09_AA; PackageDescription: 3-Pin Flange Mount, Vertical Straight Lead, Body 9.97 x 4.445 mm, Pitch 2.54 mm; Supplier 1: Digi-Key; Supplier Part Number 1: MAC16CNGOS-ND; Supplier 2: Newark; Supplier Part Number 2: 26K3650; Supplier 3: Mouser; Supplier Part Number 3: 863-MAC16CNG; Packing: Tube; RoHS: Pb-Free; Mounting Technology: Through Hole; ComponentLink1Description: Manufacturer URL; ComponentLink1URL: http://www.onsemi.com/; ComponentLink2Description: Datasheet; ComponentLink2URL: http://www.onsemi.com/pub_link/Collateral/MAC16C-D.PDF; ComponentLink3Description: Package Specification; ComponentLink3URL: http://www.onsemi.com/pub_link/Collateral/MAC16C-D.PDF
footprint ONSC-TO-220-3-221A-09_AA (FM, 3-Leads, Body 10.3x4.85mm, Pitch 2.54mm)
pins: 1 MT1, 2 MT2, 3 G

## MAC16D
designator D?
Triacs, Silicon Bidirectional Thyristor, 3-Pin TO-220, Tube; Manufacturer: On Semiconductor; PartNumber: MAC16D; IGT Max (mA): 50; IT(RMS) Max (A): 16; ITSM Max (A): 150; DatasheetVersion: Rev. 3; PackageVersion: Rev. AA; PackageReference: TO-220-3-221A-09_AA; PackageDescription: 3-Pin Flange Mount, Vertical Straight Lead, Body 9.97 x 4.445 mm, Pitch 2.54 mm; Supplier 1: Digi-Key; Supplier Part Number 1: MAC16DOS-ND; Packing: Tube; Mounting Technology: Through Hole; ComponentLink1Description: Manufacturer URL; ComponentLink1URL: http://www.onsemi.com/; ComponentLink2Description: Datasheet; ComponentLink2URL: http://www.onsemi.com/pub_link/Collateral/MAC16D-D.PDF; ComponentLink3Description: Package Specification; ComponentLink3URL: http://www.onsemi.com/pub_link/Collateral/MAC16C-D.PDF
footprint ONSC-TO-220-3-221A-09_AA (FM, 3-Leads, Body 10.3x4.85mm, Pitch 2.54mm)
pins: 1 MT1, 2 MT2, 3 G

## MAC16DG
designator D?
Triacs, Silicon Bidirectional Thyristor, 3-Pin TO-220, Pb-Free, Tube; Manufacturer: On Semiconductor; PartNumber: MAC16DG; IGT Max (mA): 50; IT(RMS) Max (A): 16; ITSM Max (A): 150; DatasheetVersion: Rev. 3; PackageVersion: Rev. AA; PackageReference: TO-220-3-221A-09_AA; PackageDescription: 3-Pin Flange Mount, Vertical Straight Lead, Body 9.97 x 4.445 mm, Pitch 2.54 mm; Supplier 1: Digi-Key; Supplier Part Number 1: MAC16DGOS-ND; Supplier 2: Newark; Supplier Part Number 2: 41K9919; Supplier 3: Mouser; Supplier Part Number 3: 863-MAC16DG; Packing: Tube; RoHS: Pb-Free; Mounting Technology: Through Hole; ComponentLink1Description: Manufacturer URL; ComponentLink1URL: http://www.onsemi.com/; ComponentLink2Description: Datasheet; ComponentLink2URL: http://www.onsemi.com/pub_link/Collateral/MAC16D-D.PDF; ComponentLink3Description: Package Specification; ComponentLink3URL: http://www.onsemi.com/pub_link/Collateral/MAC16C-D.PDF
footprint ONSC-TO-220-3-221A-09_AA (FM, 3-Leads, Body 10.3x4.85mm, Pitch 2.54mm)
pins: 1 MT1, 2 MT2, 3 G

## MAC16HCD
designator D?
Triacs, Silicon Bidirectional Thyristor, 3-Pin TO-220, Tube; Manufacturer: On Semiconductor; PartNumber: MAC16HCD; IGT Max (mA): 50; IT(RMS) Max (A): 16; ITSM Max (A): 150; DatasheetVersion: Rev. 1; PackageVersion: Rev. AA; PackageReference: TO-220-3-221A-09_AA; PackageDescription: 3-Pin Flange Mount, Vertical Straight Lead, Body 9.97 x 4.445 mm, Pitch 2.54 mm; Packing: Tube; Mounting Technology: Through Hole; ComponentLink1Description: Manufacturer URL; ComponentLink1URL: http://www.onsemi.com/; ComponentLink2Description: Datasheet; ComponentLink2URL: http://www.onsemi.com/pub_link/Collateral/MAC16HC-D.PDF; ComponentLink3Description: Package Specification; ComponentLink3URL: http://www.onsemi.com/pub_link/Collateral/MAC16C-D.PDF
footprint ONSC-TO-220-3-221A-09_AA (FM, 3-Leads, Body 10.3x4.85mm, Pitch 2.54mm)
pins: 1 MT1, 2 MT2, 3 G

## MAC16HCDG
designator D?
Triacs, Silicon Bidirectional Thyristor, 3-Pin TO-220, Pb-Free, Tube; Manufacturer: On Semiconductor; PartNumber: MAC16HCDG; IGT Max (mA): 50; IT(RMS) Max (A): 16; ITSM Max (A): 150; DatasheetVersion: Rev. 1; PackageVersion: Rev. AA; PackageReference: TO-220-3-221A-09_AA; PackageDescription: 3-Pin Flange Mount, Vertical Straight Lead, Body 9.97 x 4.445 mm, Pitch 2.54 mm; Supplier 1: Digi-Key; Supplier Part Number 1: MAC16HCDG-ND; Supplier 2: Mouser; Supplier Part Number 2: 863-MAC16HCDG; Packing: Tube; RoHS: Pb-Free; Mounting Technology: Through Hole; ComponentLink1Description: Manufacturer URL; ComponentLink1URL: http://www.onsemi.com/; ComponentLink2Description: Datasheet; ComponentLink2URL: http://www.onsemi.com/pub_link/Collateral/MAC16HC-D.PDF; ComponentLink3Description: Package Specification; ComponentLink3URL: http://www.onsemi.com/pub_link/Collateral/MAC16C-D.PDF
footprint ONSC-TO-220-3-221A-09_AA (FM, 3-Leads, Body 10.3x4.85mm, Pitch 2.54mm)
pins: 1 MT1, 2 MT2, 3 G

## MAC16HCM
designator D?
Triacs, Silicon Bidirectional Thyristor, 3-Pin TO-220, Tube; Manufacturer: On Semiconductor; PartNumber: MAC16HCM; IGT Max (mA): 50; IT(RMS) Max (A): 16; ITSM Max (A): 150; DatasheetVersion: Rev. 1; PackageVersion: Rev. AA; PackageReference: TO-220-3-221A-09_AA; PackageDescription: 3-Pin Flange Mount, Vertical Straight Lead, Body 9.97 x 4.445 mm, Pitch 2.54 mm; Supplier 1: Digi-Key; Supplier Part Number 1: MAC16HCM-ND; Packing: Tube; Mounting Technology: Through Hole; ComponentLink1Description: Manufacturer URL; ComponentLink1URL: http://www.onsemi.com/; ComponentLink2Description: Datasheet; ComponentLink2URL: http://www.onsemi.com/pub_link/Collateral/MAC16HC-D.PDF; ComponentLink3Description: Package Specification; ComponentLink3URL: http://www.onsemi.com/pub_link/Collateral/MAC16C-D.PDF
footprint ONSC-TO-220-3-221A-09_AA (FM, 3-Leads, Body 10.3x4.85mm, Pitch 2.54mm)
pins: 1 MT1, 2 MT2, 3 G

## MAC16HCMG
designator D?
Triacs, Silicon Bidirectional Thyristor, 3-Pin TO-220, Pb-Free, Tube; Manufacturer: On Semiconductor; PartNumber: MAC16HCMG; IGT Max (mA): 50; IT(RMS) Max (A): 16; ITSM Max (A): 150; DatasheetVersion: Rev. 1; PackageVersion: Rev. AA; PackageReference: TO-220-3-221A-09_AA; PackageDescription: 3-Pin Flange Mount, Vertical Straight Lead, Body 9.97 x 4.445 mm, Pitch 2.54 mm; Supplier 1: Digi-Key; Supplier Part Number 1: MAC16HCMG-ND; Supplier 2: Newark; Supplier Part Number 2: 41K9921; Supplier 3: Mouser; Supplier Part Number 3: 863-MAC16HCMG; Packing: Tube; RoHS: Pb-Free; Mounting Technology: Through Hole; ComponentLink1Description: Manufacturer URL; ComponentLink1URL: http://www.onsemi.com/; ComponentLink2Description: Datasheet; ComponentLink2URL: http://www.onsemi.com/pub_link/Collateral/MAC16HC-D.PDF; ComponentLink3Description: Package Specification; ComponentLink3URL: http://www.onsemi.com/pub_link/Collateral/MAC16C-D.PDF
footprint ONSC-TO-220-3-221A-09_AA (FM, 3-Leads, Body 10.3x4.85mm, Pitch 2.54mm)
pins: 1 MT1, 2 MT2, 3 G

## MAC16HCN
designator D?
Triacs, Silicon Bidirectional Thyristor, 3-Pin TO-220, Tube; Manufacturer: On Semiconductor; PartNumber: MAC16HCN; IGT Max (mA): 50; IT(RMS) Max (A): 16; ITSM Max (A): 150; DatasheetVersion: Rev. 1; PackageVersion: Rev. AA; PackageReference: TO-220-3-221A-09_AA; PackageDescription: 3-Pin Flange Mount, Vertical Straight Lead, Body 9.97 x 4.445 mm, Pitch 2.54 mm; Supplier 1: Digi-Key; Supplier Part Number 1: MAC16HCN-ND; Packing: Tube; Mounting Technology: Through Hole; ComponentLink1Description: Manufacturer URL; ComponentLink1URL: http://www.onsemi.com/; ComponentLink2Description: Datasheet; ComponentLink2URL: http://www.onsemi.com/pub_link/Collateral/MAC16HC-D.PDF; ComponentLink3Description: Package Specification; ComponentLink3URL: http://www.onsemi.com/pub_link/Collateral/MAC16C-D.PDF
footprint ONSC-TO-220-3-221A-09_AA (FM, 3-Leads, Body 10.3x4.85mm, Pitch 2.54mm)
pins: 1 MT1, 2 MT2, 3 G

## MAC16HCNG
designator D?
Triacs, Silicon Bidirectional Thyristor, 3-Pin TO-220, Pb-Free, Tube; Manufacturer: On Semiconductor; PartNumber: MAC16HCNG; IGT Max (mA): 50; IT(RMS) Max (A): 16; ITSM Max (A): 150; DatasheetVersion: Rev. 1; PackageVersion: Rev. AA; PackageReference: TO-220-3-221A-09_AA; PackageDescription: 3-Pin Flange Mount, Vertical Straight Lead, Body 9.97 x 4.445 mm, Pitch 2.54 mm; Supplier 1: Digi-Key; Supplier Part Number 1: MAC16HCNG-ND; Supplier 2: Newark; Supplier Part Number 2: 41K9922; Supplier 3: Mouser; Supplier Part Number 3: 863-MAC16HCNG; Packing: Tube; RoHS: Pb-Free; Mounting Technology: Through Hole; ComponentLink1Description: Manufacturer URL; ComponentLink1URL: http://www.onsemi.com/; ComponentLink2Description: Datasheet; ComponentLink2URL: http://www.onsemi.com/pub_link/Collateral/MAC16HC-D.PDF; ComponentLink3Description: Package Specification; ComponentLink3URL: http://www.onsemi.com/pub_link/Collateral/MAC16C-D.PDF
footprint ONSC-TO-220-3-221A-09_AA (FM, 3-Leads, Body 10.3x4.85mm, Pitch 2.54mm)
pins: 1 MT1, 2 MT2, 3 G

## MAC16M
designator D?
Triacs, Silicon Bidirectional Thyristor, 3-Pin TO-220, Tube; Manufacturer: On Semiconductor; PartNumber: MAC16M; IGT Max (mA): 50; IT(RMS) Max (A): 16; ITSM Max (A): 150; DatasheetVersion: Rev. 3; PackageVersion: Rev. AA; PackageReference: TO-220-3-221A-09_AA; PackageDescription: 3-Pin Flange Mount, Vertical Straight Lead, Body 9.97 x 4.445 mm, Pitch 2.54 mm; Packing: Tube; Mounting Technology: Through Hole; ComponentLink1Description: Manufacturer URL; ComponentLink1URL: http://www.onsemi.com/; ComponentLink2Description: Datasheet; ComponentLink2URL: http://www.onsemi.com/pub_link/Collateral/MAC16D-D.PDF; ComponentLink3Description: Package Specification; ComponentLink3URL: http://www.onsemi.com/pub_link/Collateral/MAC16C-D.PDF
footprint ONSC-TO-220-3-221A-09_AA (FM, 3-Leads, Body 10.3x4.85mm, Pitch 2.54mm)
pins: 1 MT1, 2 MT2, 3 G

## MAC16MG
designator D?
Triacs, Silicon Bidirectional Thyristor, 3-Pin TO-220, Pb-Free, Tube; Manufacturer: On Semiconductor; PartNumber: MAC16MG; IGT Max (mA): 50; IT(RMS) Max (A): 16; ITSM Max (A): 150; DatasheetVersion: Rev. 3; PackageVersion: Rev. AA; PackageReference: TO-220-3-221A-09_AA; PackageDescription: 3-Pin Flange Mount, Vertical Straight Lead, Body 9.97 x 4.445 mm, Pitch 2.54 mm; Supplier 1: Digi-Key; Supplier Part Number 1: MAC16MGOS-ND; Supplier 2: Farnell; Supplier Part Number 2: 1147852; Supplier 3: Newark; Supplier Part Number 3: 71J5234; Supplier 4: Mouser; Supplier Part Number 4: 863-MAC16MG; Packing: Tube; RoHS: Pb-Free; Mounting Technology: Through Hole; ComponentLink1Description: Manufacturer URL; ComponentLink1URL: http://www.onsemi.com/; ComponentLink2Description: Datasheet; ComponentLink2URL: http://www.onsemi.com/pub_link/Collateral/MAC16D-D.PDF; ComponentLink3Description: Package Specification; ComponentLink3URL: http://www.onsemi.com/pub_link/Collateral/MAC16C-D.PDF
footprint ONSC-TO-220-3-221A-09_AA (FM, 3-Leads, Body 10.3x4.85mm, Pitch 2.54mm)
pins: 1 MT1, 2 MT2, 3 G

## MAC16N
designator D?
Triacs, Silicon Bidirectional Thyristor, 3-Pin TO-220, Tube; Manufacturer: On Semiconductor; PartNumber: MAC16N; IGT Max (mA): 50; IT(RMS) Max (A): 16; ITSM Max (A): 150; DatasheetVersion: Rev. 3; PackageVersion: Rev. AA; PackageReference: TO-220-3-221A-09_AA; PackageDescription: 3-Pin Flange Mount, Vertical Straight Lead, Body 9.97 x 4.445 mm, Pitch 2.54 mm; Packing: Tube; Mounting Technology: Through Hole; ComponentLink1Description: Manufacturer URL; ComponentLink1URL: http://www.onsemi.com/; ComponentLink2Description: Datasheet; ComponentLink2URL: http://www.onsemi.com/pub_link/Collateral/MAC16D-D.PDF; ComponentLink3Description: Package Specification; ComponentLink3URL: http://www.onsemi.com/pub_link/Collateral/MAC16C-D.PDF
footprint ONSC-TO-220-3-221A-09_AA (FM, 3-Leads, Body 10.3x4.85mm, Pitch 2.54mm)
pins: 1 MT1, 2 MT2, 3 G